# EAGLE library part ADS1220 (library U-ADC)
ADS1220 [TI,ADS1220IPWR] 24BIT 4CH 2DIF SPI 2KSPS 16TSSOP
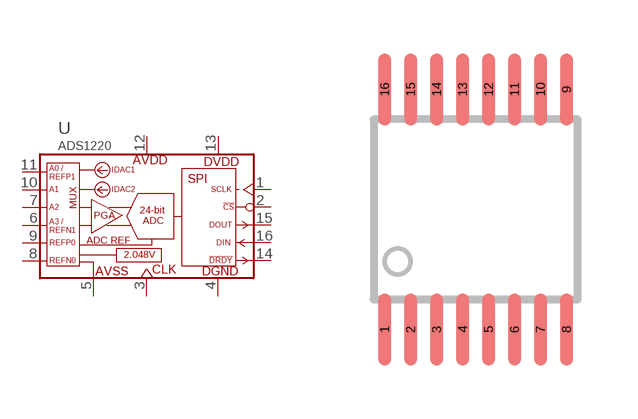
[diagram p1: symbol with the pads of 16TSSOP; footprint 16TSSOP]

Designator prefix U

## ADS1220  [16TSSOP]
1  SCLK  in
2  !CS  in
3  CLK  in
4  DGND  pwr
5  AVSS  pwr
6  AIN3  in
7  AIN2  pas
8  REFN0  in
9  REFP0  in
10  AIN1  pas
11  AIN0  in
12  AVDD  pwr
13  DVDD  pwr
14  !DRDY  out
15  DOUT  out
16  DIN  in

## Footprint 16TSSOP (pad centres in mm)
16POS THIN SHRINK SMALL OUTLINE PACKAGE (16-TSSOP) I (R Sutherland) based this on TI's drawing (4040064-4/G) for package type PW (R-PDSO-G16) ... PLASTIC SMALL OUTLINE
smd 0.33 x 1.8: 1 -2.275,-3; 2 -1.625,-3; 3 -0.975,-3; 4 -0.325,-3; 5 0.325,-3; 6 0.975,-3; 7 1.625,-3; 8 2.275,-3; 9 2.275,3; 10 1.625,3; 11 0.975,3; 12 0.325,3; 13 -0.325,3; 14 -0.975,3; 15 -1.625,3; 16 -2.275,3